# Altium schematic symbol library recom.SchLib: 5 symbols
Pins are listed as number, name and electrical type; pins without a type are passive.

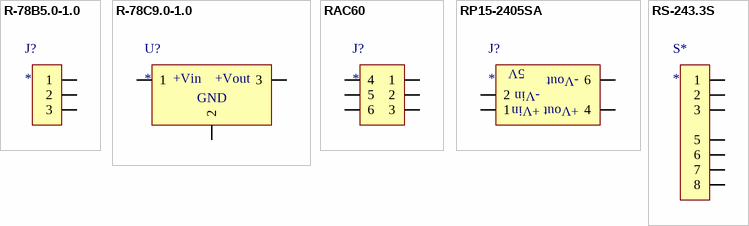
[diagram p0: symbols R-78B5.0-1.0 to RS-243.3S]

## R-78B5.0-1.0
designator J?
Screw Terminal, 3 Pin
footprint R-78B5.0-1.0 (6.5 to 34 Vdc In, 5 Vdc Out)
pins: 1, 2, 3

## R-78C9.0-1.0
designator U?
Recom, DC-DC Converter
footprint R-78Cx-1.0 (12 to 42 Vdc In, 9 Vdc Out)
pins: 1, 2, 3
text: +Vin; +Vout; GND

## RAC60
designator J?
85-260 Vac to 24 Vdc
footprint RAC60
pins: 1, 2, 3, 4, 5, 6

## RP15-2405SA
designator J?
85-260 Vac to 24 Vdc
footprint RP15 (Recom RP15 Series Supply)
pins: 1, 2, 4, 6
text: 5V; -Vout; -Vin; +Vin; +Vout

## RS-243.3S
designator S*
3.3 V Supply
footprint RS3-243.3s (3.3V Supply)
pins: 1, 2, 3, 5, 6, 7, 8